# Altium footprint library H-Bridge-Driver.PcbLib: 6 footprints
Each footprint in its own frame and in the unit in brackets; x right, y up, seen from the top. Pads: shape width x height; smd on the part's side, far side on the other; paste and mask are expansions set on the pad; w line width, h text height; cw(c..) or ccw(c..) is an arc to the next point about the centre after c.
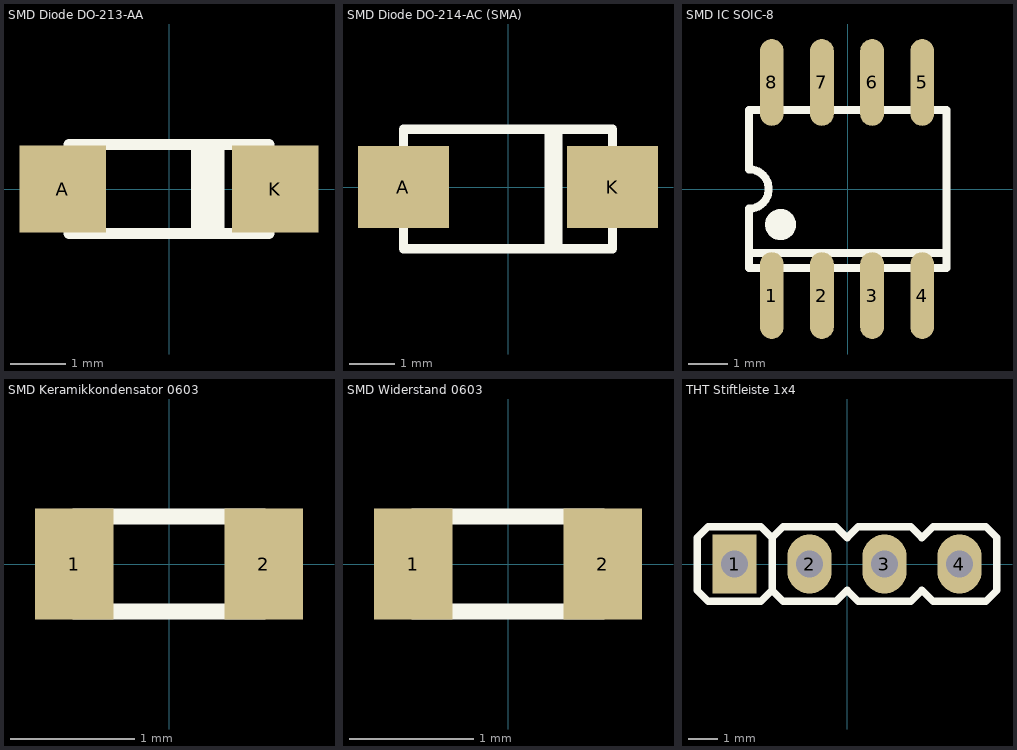
[diagram p0: the footprints below, top view; thin cyan lines are the x and y axes]

## SMD Diode DO-213-AA [mm] "SM LED; 2 Flat Leads"
height 1.3
pads (2):
  rect 1.555x1.57 smd: A(-1.915,0) K(1.915,0)
Top Overlay:
  rectangle: 0.4,-0.8 1,0.8
  lines w0.2: -1.8,-0.8 -1.8,0.8 1.8,0.8 1.8,-0.8 -1.8,-0.8
3D body "DO-213AA-RED.stp": height 1.6, standoff 0, extent -1.85,-0.786 1.85,0.786

## SMD Diode DO-214-AC (SMA) [mm] "SM LED; 2 Flat Leads"
height 1.3
pads (2):
  rect 2x1.8 smd: A(-2.3,0) K(2.3,0)
Top Overlay:
  lines w0.2: 0.9,-1.328 0.9,1.2 ; 1,-1.328 1,1.2 ; 1.1,-1.328 1.1,1.2 ; -2.3,-1.358 -2.3,1.27 2.3,1.27 2.3,-1.358 -2.3,-1.358
3D body "User Library-S1G-1.step": height 2.7, standoff 0, extent -2.8,-1.475 2.8,1.475

## SMD IC SOIC-8 [mm]
pads (8):
  oval 0.6x2.2 smd: 1(-1.922,-2.7) 2(-0.652,-2.7) 3(0.618,-2.7) 4(1.888,-2.7) 5(1.888,2.7) 6(0.618,2.7) 7(-0.652,2.7) 8(-1.922,2.7)
Top Overlay:
  circle w0.406: c-1.7,-0.9 r0.191
  lines w0.2: -2.5,-2 2.5,-2 2.5,2 -2.5,2 ; -2.5,-1.625 2.5,-1.625
  lines w0.203: -2.5,-2 -2.5,-0.5 ccw(c-2.5,0) -2.5,0.5 -2.5,2
3D body "User Library-SO-8-1.step": height 1.75, standoff 0, extent -2.5,-3.122 2.5,3.122

## SMD Keramikkondensator 0603 [mil]
pads (2):
  rect 25x35 smd: 1(-30,0) 2(30,0)
Top Overlay:
  lines w5: -30,-15 30,-15 30,15 -30,15 -30,-15
3D body "User Library-0603_Cap.STEP": height 31.69, standoff 0, extent -31.49,-15.74 31.5,15.75

## SMD Widerstand 0603 [mil]
pads (2):
  rect 25x35 smd: 1(-30,0) 2(30,0)
Top Overlay:
  lines w5: -30,-15 30,-15 30,15 -30,15 -30,-15
3D body "User Library-Panasonic0603.step": height 17.72, standoff 0, extent -31.5,-16.14 31.5,16.14

## THT Stiftleiste 1x4 [mm]
pads (4):
  rect 1.5x2 hole 0.9: 1(-3.81,0)
  oval 1.5x2 hole 0.9: 2(-1.27,0) 3(1.27,0) 4(3.81,0)
Top Overlay:
  lines w0.254: -2.54,-0.889 -2.54,0.762 -2.54,0.889 ; -2.54,-0.889 -2.921,-1.27 -4.699,-1.27 -5.08,-0.889 -5.08,0.889 -4.699,1.27 -2.921,1.27 -2.54,0.889 ; -2.54,-0.889 -2.159,-1.27 -0.381,-1.27 0,-0.889 0.381,-1.27 2.159,-1.27 2.54,-0.889 2.921,-1.27 4.699,-1.27 5.08,-0.889 5.08,0.889 4.699,1.27 2.921,1.27 2.54,0.889 2.159,1.27 0.381,1.27 0,0.889 -0.381,1.27 -2.159,1.27 -2.54,0.889
3D body "Stiftleiste 1x3.STEP": height 8.6, standoff -3, extent -5.08,-1.27 2.54,1.27
3D body "Stiftleiste 1x3.STEP": height 8.6, standoff -3, extent -2.54,-1.27 5.08,1.27